# Altium integrated library Integrated_Library.IntLib: 1 symbol
Pins are listed as number, name and electrical type; pins without a type are passive.

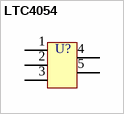
[diagram p0: symbol LTC4054]

## LTC4054
designator U?  (value not drawn)
pins: 1, 2, 3, 4, 5